# EAGLE library part A5975D (library A5975D)
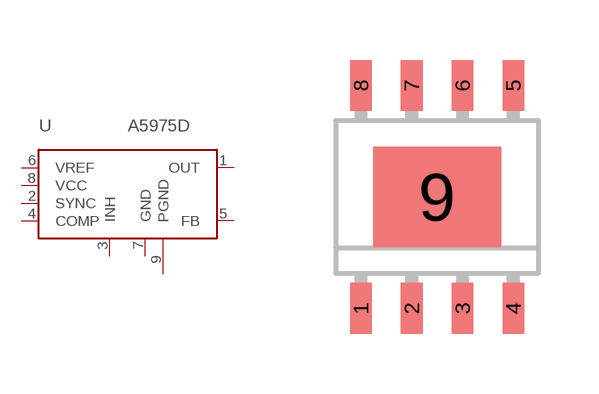
[diagram p0: symbol with the pads of HSOP8; footprint HSOP8]

Designator prefix -

## A5975D  [HSOP8]
1  OUT  sup
2  SYNC
3  INH  in
4  COMP  out
5  FB  in
6  VREF  out
7  GND  pwr
8  VCC  sup
9  PGND

## Footprint HSOP8 (pad centres in mm)
smd 0.54 x 1.27: 1 -1.905,-2.785; 2 -0.635,-2.785; 3 0.635,-2.785; 4 1.905,-2.785; 5 1.905,2.785; 6 0.635,2.785; 7 -0.635,2.785; 8 -1.905,2.785
smd 3.2 x 2.51: 9 0,0